# EAGLE library part PDU-100 (library will)
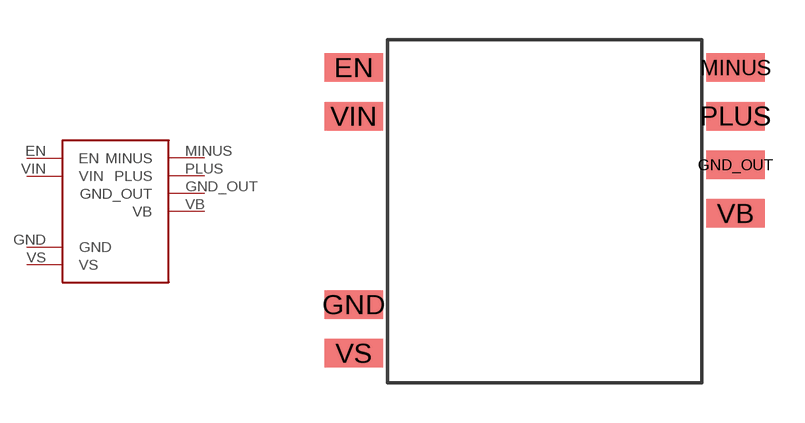
[diagram p7: symbol with the pads of PDU-100_OUTLINE; footprint PDU-100_OUTLINE]

Designator prefix -

## PDU-100  [PDU-100_OUTLINE]
EN  EN
GND  GND
GND_OUT  GND_OUT
MINUS  MINUS
PLUS  PLUS
VB  VB
VIN  VIN
VS  VS

## Footprint PDU-100_OUTLINE (pad centres in mm)
smd 2.184 x 1.067: EN -1.27,11.862; GND -1.27,2.946; GND_OUT 13.081,8.204; MINUS 13.081,11.862; PLUS 13.081,10.033; VB 13.081,6.375; VIN -1.27,10.033; VS -1.27,1.118